# EAGLE library part R-ISO-SIL-4 (library Skoba)
SIL RESISTOR
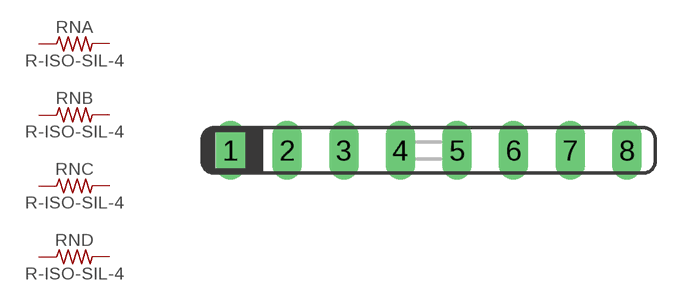
[diagram p17: symbol with the pads of SIL8; footprint SIL8]

Designator prefix RN; gates A=R-US B=R-US C=R-US D=R-US

## R-ISO-SIL-4 (OC_FARNELL: unknown; OC_NEWARK: unknown)  [SIL8]
1  A:1  pas
2  A:2  pas
3  B:1  pas
4  B:2  pas
5  C:1  pas
6  C:2  pas
7  D:1  pas
8  D:2  pas

## Footprint SIL8 (pad centres in mm)
Single In Line
drill 0.813 long: 1 -8.89,0; 2 -6.35,0; 3 -3.81,0; 4 -1.27,0; 5 1.27,0; 6 3.81,0; 7 6.35,0; 8 8.89,0